# EAGLE library part TFDU6101E (library jasons_stuff)
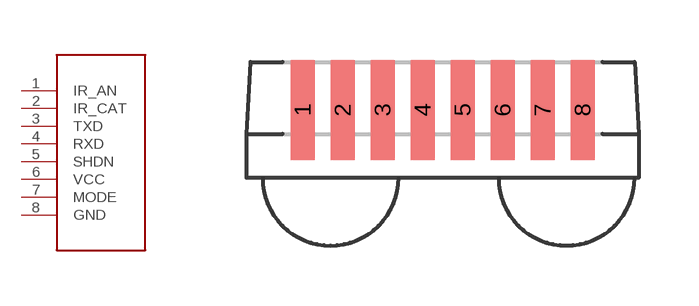
[diagram p35: symbol with the pads of TFDU4-HOR; footprint TFDU4-HOR]

Designator prefix -

## TFDU6101E  [TFDU4-HOR]
1  IR_AN
2  IR_CAT
3  TXD  in
4  RXD  out
5  SHDN  in
6  VCC  pwr
7  MODE  in
8  GND  pwr

## Footprint TFDU4-HOR (pad centres in mm)
TFDU4100 BabyFace horizontal (Universal) Vishay Telefunken
smd 0.6 x 2.5: 1 -3.5,0; 2 -2.5,0; 3 -1.5,0; 4 -0.5,0; 5 0.5,0; 6 1.5,0; 7 2.5,0; 8 3.5,0